# Altium schematic symbol library 691 701 320 0xx B.SchLib: 11 symbols
Pins are listed as number, name and electrical type; pins without a type are passive.

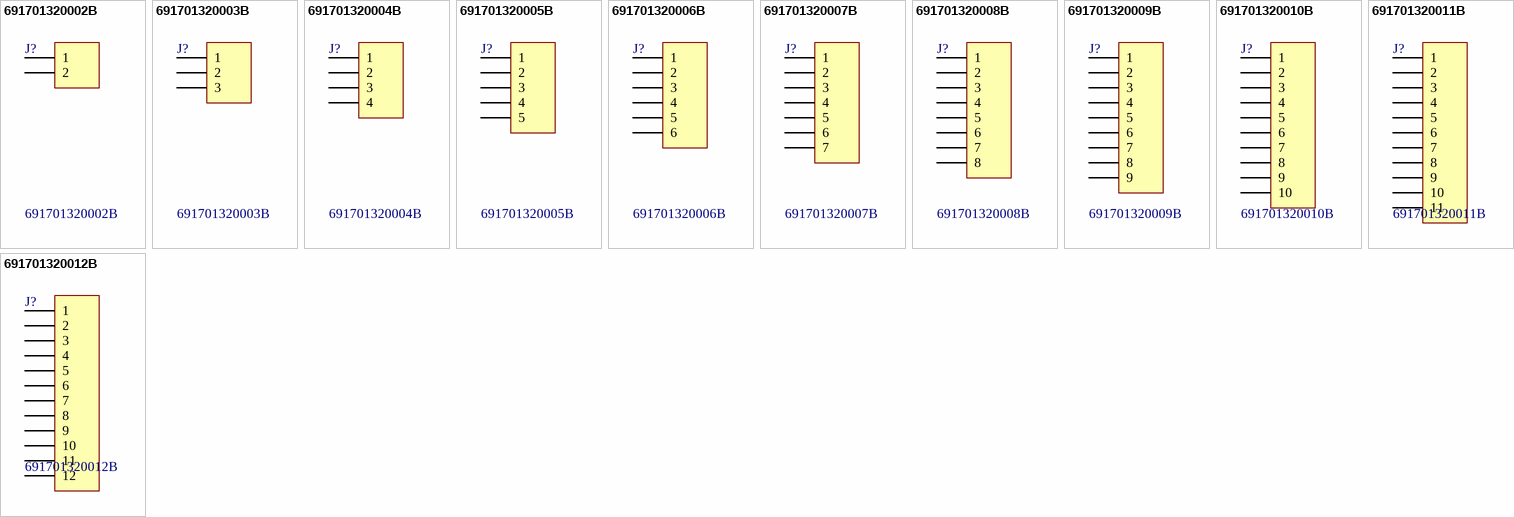
[diagram p0: symbols 691701320002B to 691701320012B]

## 691701320002B
designator J?
WR-TBL Terminal block - serie 7013 VF- 3.81 mm; Manufacturer: Würth Elektronik eiSos GmbH; ComponentLink1 Description: Manufacturer; ComponentLink2 Description: Datasheet; NoPins: 2; Created Date: 18 December 2013; partNo: 691701320002B; ComponentLink1URL: http://www.we-online.com; ComponentLink2URL: http://katalog.we-online.de/em/datasheet/6917013200xxB.pdf; Created by: Karrer Zheng
footprint 691701320002B
pins: 1, 2

## 691701320003B
designator J?
WR-TBL Terminal block - serie 7013 VF- 3.81 mm; Manufacturer: Würth Elektronik eiSos GmbH; ComponentLink1 Description: Manufacturer; ComponentLink2 Description: Datasheet; NoPins: 3; Created Date: 18 December 2013; partNo: 691701320003B; ComponentLink1URL: http://www.we-online.com; ComponentLink2URL: http://katalog.we-online.de/em/datasheet/6917013200xxB.pdf; Created by: Karrer Zheng
footprint 691701320003B (THR - 3,81mm - PCB Vertical Flange - 03p)
pins: 1, 2, 3

## 691701320004B
designator J?
WR-TBL Terminal block - serie 7013 VF- 3.81 mm; Manufacturer: Würth Elektronik eiSos GmbH; ComponentLink1 Description: Manufacturer; ComponentLink2 Description: Datasheet; NoPins: 4; Created Date: 18 December 2013; partNo: 691701320004B; ComponentLink1URL: http://www.we-online.com; ComponentLink2URL: http://katalog.we-online.de/em/datasheet/6917013200xxB.pdf; Created by: Karrer Zheng
footprint 691701320004B (THR - 3,81mm - PCB Vertical Flange - 04p)
pins: 1, 2, 3, 4

## 691701320005B
designator J?
WR-TBL Terminal block - serie 7013 VF- 3.81 mm; Manufacturer: Würth Elektronik eiSos GmbH; ComponentLink1 Description: Manufacturer; ComponentLink2 Description: Datasheet; NoPins: 5; Created Date: 18 December 2013; partNo: 691701320005B; ComponentLink1URL: http://www.we-online.com; ComponentLink2URL: http://katalog.we-online.de/em/datasheet/6917013200xxB.pdf; Created by: Karrer Zheng
footprint 691701320005B (THR - 3,81mm - PCB Vertical Flange - 05p)
pins: 1, 2, 3, 4, 5

## 691701320006B
designator J?
WR-TBL Terminal block - serie 7013 VF- 3.81 mm; Manufacturer: Würth Elektronik eiSos GmbH; ComponentLink1 Description: Manufacturer; ComponentLink2 Description: Datasheet; NoPins: 6; Created Date: 18 December 2013; partNo: 691701320006B; ComponentLink1URL: http://www.we-online.com; ComponentLink2URL: http://katalog.we-online.de/em/datasheet/6917013200xxB.pdf; Created by: Karrer Zheng
footprint 691701320006B (THR - 3,81mm - PCB Vertical Flange - 06p)
pins: 1, 2, 3, 4, 5, 6

## 691701320007B
designator J?
WR-TBL Terminal block - serie 7013 VF- 3.81 mm; Manufacturer: Würth Elektronik eiSos GmbH; ComponentLink1 Description: Manufacturer; ComponentLink2 Description: Datasheet; NoPins: 7; Created Date: 18 December 2013; partNo: 691701320007B; ComponentLink1URL: http://www.we-online.com; ComponentLink2URL: http://katalog.we-online.de/em/datasheet/6917013200xxB.pdf; Created by: Karrer Zheng
footprint 691701320007B (THR - 3,81mm - PCB Vertical Flange - 07p)
pins: 1, 2, 3, 4, 5, 6, 7

## 691701320008B
designator J?
WR-TBL Terminal block - serie 7013 VF- 3.81 mm; Manufacturer: Würth Elektronik eiSos GmbH; ComponentLink1 Description: Manufacturer; ComponentLink2 Description: Datasheet; NoPins: 8; Created Date: 18 December 2013; partNo: 691701320008B; ComponentLink1URL: http://www.we-online.com; ComponentLink2URL: http://katalog.we-online.de/em/datasheet/6917013200xxB.pdf; Created by: Karrer Zheng
footprint 691701320008B (THR - 3,81mm - PCB Vertical Flange - 08p)
pins: 1, 2, 3, 4, 5, 6, 7, 8

## 691701320009B
designator J?
WR-TBL Terminal block - serie 7013 VF- 3.81 mm; Manufacturer: Würth Elektronik eiSos GmbH; ComponentLink1 Description: Manufacturer; ComponentLink2 Description: Datasheet; NoPins: 9; Created Date: 18 December 2013; partNo: 691701320009B; ComponentLink1URL: http://www.we-online.com; ComponentLink2URL: http://katalog.we-online.de/em/datasheet/6917013200xxB.pdf; Created by: Karrer Zheng
footprint 691701320009B (THR - 3,81mm - PCB Vertical Flange - 09p)
pins: 1, 2, 3, 4, 5, 6, 7, 8, 9

## 691701320010B
designator J?
WR-TBL Terminal block - serie 7013 VF- 3.81 mm; Manufacturer: Würth Elektronik eiSos GmbH; ComponentLink1 Description: Manufacturer; ComponentLink2 Description: Datasheet; NoPins: 10; Created Date: 18 December 2013; partNo: 691701320010B; ComponentLink1URL: http://www.we-online.com; ComponentLink2URL: http://katalog.we-online.de/em/datasheet/6917013200xxB.pdf; Created by: Karrer Zheng
footprint 691701320010B (THR - 3,81mm - PCB Vertical Flange - 10p)
pins: 1, 2, 3, 4, 5, 6, 7, 8, 9, 10

## 691701320011B
designator J?
WR-TBL Terminal block - serie 7013 VF- 3.81 mm; Manufacturer: Würth Elektronik eiSos GmbH; ComponentLink1 Description: Manufacturer; ComponentLink2 Description: Datasheet; NoPins: 11; Created Date: 18 December 2013; partNo: 691701320011B; ComponentLink1URL: http://www.we-online.com; ComponentLink2URL: http://katalog.we-online.de/em/datasheet/6917013200xxB.pdf; Created by: Karrer Zheng
footprint 691701320011B (THR - 3,81mm - PCB Vertical Flange - 11p)
pins: 1, 2, 3, 4, 5, 6, 7, 8, 9, 10, 11

## 691701320012B
designator J?
WR-TBL Terminal block - serie 7013 VF- 3.81 mm; Manufacturer: Würth Elektronik eiSos GmbH; ComponentLink1 Description: Manufacturer; ComponentLink2 Description: Datasheet; NoPins: 12; Created Date: 18 December 2013; partNo: 691701320012B; ComponentLink1URL: http://www.we-online.com; ComponentLink2URL: http://katalog.we-online.de/em/datasheet/6917013200xxB.pdf; Created by: Karrer Zheng
footprint 691701320012B (THR - 3,81mm - PCB Vertical Flange - 12p)
pins: 1, 2, 3, 4, 5, 6, 7, 8, 9, 10, 11, 12